# EAGLE library part LM7171BIN_NOPB (library LM7171BIN_NOPB)
Texas Instruments LM7171BIN/NOPB Op Amp, 125MHz, 6 28 V, 8-Pin MDIP Source: Datasheet <http://www.ti.com/lit/gpn/lm7171>
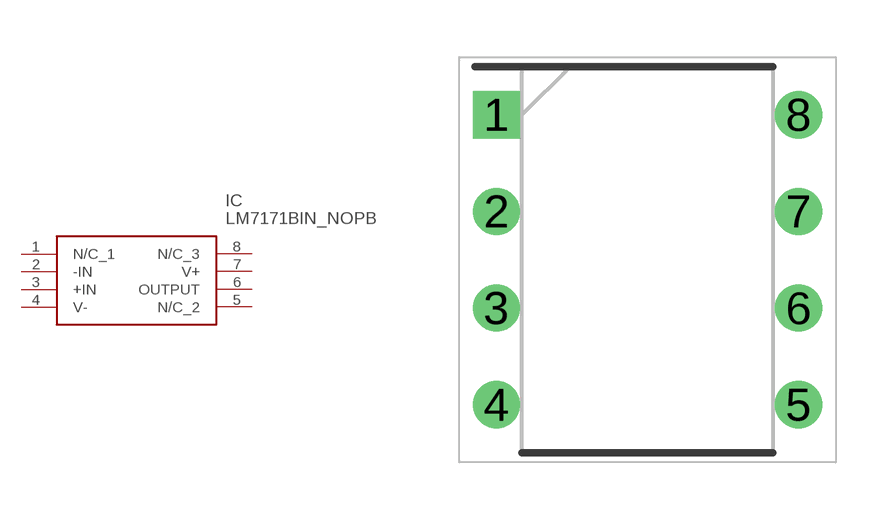
[diagram p0: symbol with the pads of DIP794W53P254L959H508Q8N; footprint DIP794W53P254L959H508Q8N]

Designator prefix IC

## LM7171BIN_NOPB (Arrow_Part_Number: LM7171BIN/NOPB; Arrow_Price-Stock: https://www.arrow.com/en/products/lm7171binnopb/texas-instruments?region=nac; Description: Texas Instruments LM7171BIN/NOPB Op Amp, 125MHz, 6 28 V, 8-Pin MDIP; Height: 5.08mm; Manufacturer_Name: Texas Instruments; Manufacturer_Part_Number: LM7171BIN/NOPB; Mouser_Part_Number: 926-LM7171BIN/NOPB; Mouser_Price-Stock: https://www.mouser.co.uk/ProductDetail/Texas-Instruments/LM7171BIN-NOPB?qs=QbsRYf82W3GfY2rfAj93dw%3D%3D)  [DIP794W53P254L959H508Q8N]
1  N/C_1
2  -IN
3  +IN
4  V-
5  N/C_2
6  OUTPUT
7  V+
8  N/C_3

## Footprint DIP794W53P254L959H508Q8N (pad centres in mm)
P-(R-PDIP-T8)
drill 0.73 pad 1.13 square: 1 -3.97,3.81
drill 0.73 pad 1.13: 2 -3.97,1.27; 3 -3.97,-1.27; 4 -3.97,-3.81; 5 3.97,-3.81; 6 3.97,-1.27; 7 3.97,1.27; 8 3.97,3.81